# Altium footprint library ZX62WRD-B-5PC.PcbLib: 1 footprints
Each footprint in its own frame and in the unit in brackets; x right, y up, seen from the top. Pads: shape width x height; smd on the part's side, far side on the other; paste and mask are expansions set on the pad; w line width, h text height; cw(c..) or ccw(c..) is an arc to the next point about the centre after c.
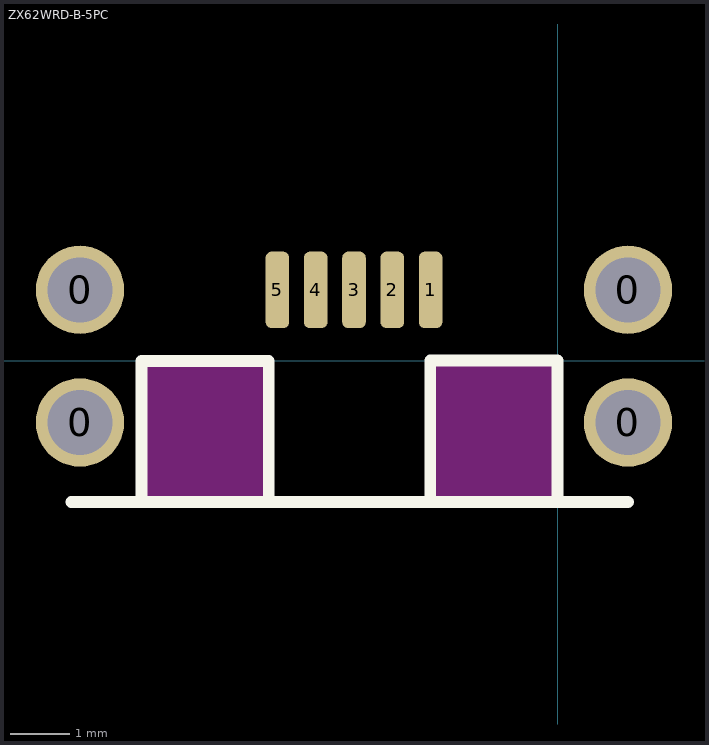
[diagram p0: the footprint, top view; thin cyan lines are the x and y axes]

## ZX62WRD-B-5PC [mm] "USB - micro B USB 2.0 Receptacle Connector 5 Position Surface Mount, Right Angle; Through Hole"
height 2.88
pads (9):
  round 1.5 hole 1.1: 0(-8.105,-1.05) 0(-8.105,1.2) 0(1.195,-1.05) 0(1.195,1.2)
  rrect50% 0.4x1.3 smd: 1(-2.155,1.2) 2(-2.805,1.2) 3(-3.455,1.2) 4(-4.105,1.2) 5(-4.755,1.2)
Top Overlay:
  lines w0.2: -8.255,-2.4 1.195,-2.4 ; -7.06,-2.405 -7.06,-0.005 -4.9,-0.005 -4.9,-2.405 ; -2.16,-2.4 -2.16,0 0,0 0,-2.4
Keep-Out Layer:
  board cut-out: -7.06,-2.405 -4.9,-2.405 -4.9,-0.005 -7.06,-0.005
  board cut-out: -2.16,-2.4 0,-2.4 0,0 -2.16,0